# EAGLE library part 615006138421 (library Wurth_Connectors_WR-MJ)
WR-MJ Modular Jack Horizontal Plastic 6PxC Tab Up KIND PROPERTIES Quality Class:500 Mating cycles General Information Operating Temperature:-40 up to +85 °C Compliance: RoHS Electrical Properties IR 1:1.5A Working Voltage:120V (AC) Withstanding Voltage:1000V (AC) Contact Resistance:20mΩ RISO:500 MΩ Material Properties Insulator MateriaL:PBT Insulator Flammability Rating:UL94 V-0 Color:Black Contact Material Copper Alloy Contact Plating:Gold Contact Type:Stamped Packaging Properties Packaging:Tray <https://www.we-online.com/catalog/media/o33138v209%20Family_WR-MJ_61500x138421.jpg> Details see: https://www.we-online.com/catalog/en/MJ_HORIZONTAL_PLASTIC_6PXC_TAB_UP/? Updated by Yingchun,Shan 2020-01-06 2020 (C) Würth Elektronik
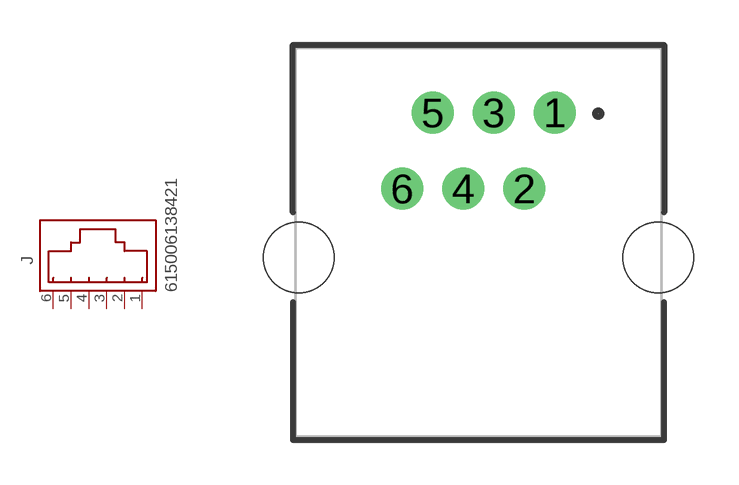
[diagram p21: symbol with the pads of 615006138421; footprint 615006138421]

Designator prefix J

## 615006138421 (DATASHEET-URL: https://www.we-online.com/redexpert/spec/615006138421?ae; MOUNT: THT; PART-NUMBER: 615006138421; TYPE: Horizontal; VALUE: 615006138421; XPXC: 6P6C)  [615006138421]
1  1  pas
2  2  pas
3  3  pas
4  4  pas
5  5  pas
6  6  pas

## Footprint 615006138421 (pad centres in mm)
WR-MJ Horizontal Plastic 6P6C Modular Jack Tab Up, 6 Pins
drill 0.9: 1 2.55,4.34; 2 1.53,1.8; 3 0.51,4.34; 4 -0.51,1.8; 5 -1.53,4.34; 6 -2.55,1.8
hole 2.36 at -6,-0.5
hole 2.36 at 6,-0.5